# Altium footprint library PCB1.PcbLib: 19 footprints (part 2 of 2)
Each footprint in its own frame and in the unit in brackets; x right, y up, seen from the top. Pads: shape width x height; smd on the part's side, far side on the other; paste and mask are expansions set on the pad; w line width, h text height; cw(c..) or ccw(c..) is an arc to the next point about the centre after c.
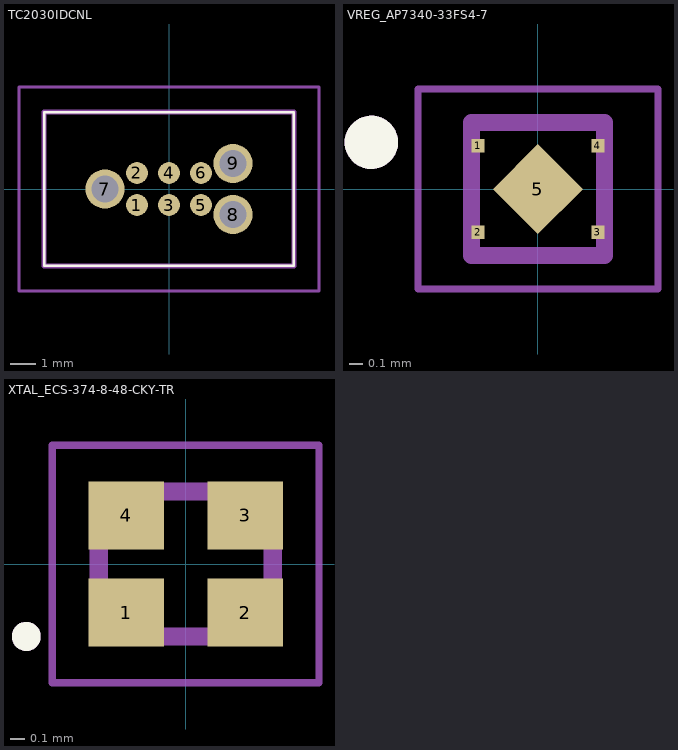
[diagram p1: the footprints below, top view; thin cyan lines are the x and y axes]

## TC2030IDCNL [mm]
pads (9):
  round 0.863 smd: 1(-1.27,-0.635) 2(-1.27,0.635) 3(0,-0.635) 4(0,0.635) 5(1.27,-0.635) 6(1.27,0.635)
  round 1.55 hole 1.067: 7(-2.54,0) 8(2.54,-1.016) 9(2.54,1.016)
Top Overlay:
  lines w0.1: -4.953,-3.048 -4.953,3.048 4.953,3.048 4.953,-3.048 -4.953,-3.048
Mechanical 13:
  lines w0.2: -4.953,-3.048 -4.953,3.048 4.953,3.048 4.953,-3.048 -4.953,-3.048
Mechanical 15:
  lines w0.1: -5.953,-4.048 -5.953,4.048 5.953,4.048 5.953,-4.048 -5.953,-4.048

## VREG_AP7340-33FS4-7 [mm]
pads (5):
  rect 0.1x0.1 smd paste-1 mask+0: 1(-0.45,0.325) 2(-0.45,-0.325) 3(0.45,-0.325) 4(0.45,0.325)
  rect 0.48x0.48 smd rot 45 paste-0.088: 5(0,0)
Top Overlay:
  circle w0.2: c-1.25,0.35 r0.1
Mechanical 13:
  circle w0.2: c-1.25,0.35 r0.1
  lines w0.127: -0.5,-0.5 -0.5,0.5 0.5,0.5 0.5,-0.5 -0.5,-0.5
Mechanical 15:
  lines w0.05: -0.9,-0.75 0.9,-0.75 0.9,0.75 -0.9,0.75 -0.9,-0.75

## XTAL_ECS-374-8-48-CKY-TR [mm]
pads (4):
  rect 0.52x0.47 smd: 1(-0.41,-0.335) 2(0.41,-0.335) 3(0.41,0.335) 4(-0.41,0.335)
Top Overlay:
  circle w0.1: c-1.1,-0.5 r0.05
Mechanical 13:
  circle w0.1: c-1.1,-0.5 r0.05
  lines w0.127: -0.6,-0.5 -0.6,0.5 0.6,0.5 0.6,-0.5 -0.6,-0.5
Mechanical 15:
  lines w0.05: -0.92,-0.82 -0.92,0.82 0.92,0.82 0.92,-0.82 -0.92,-0.82
3D body "step_temp.STEP": height 0.33, standoff 0, extent -0.6,-0.5 0.6,0.5